# EAGLE library part M4-256P208 (library amd-mach)
AMD MACH SERIES
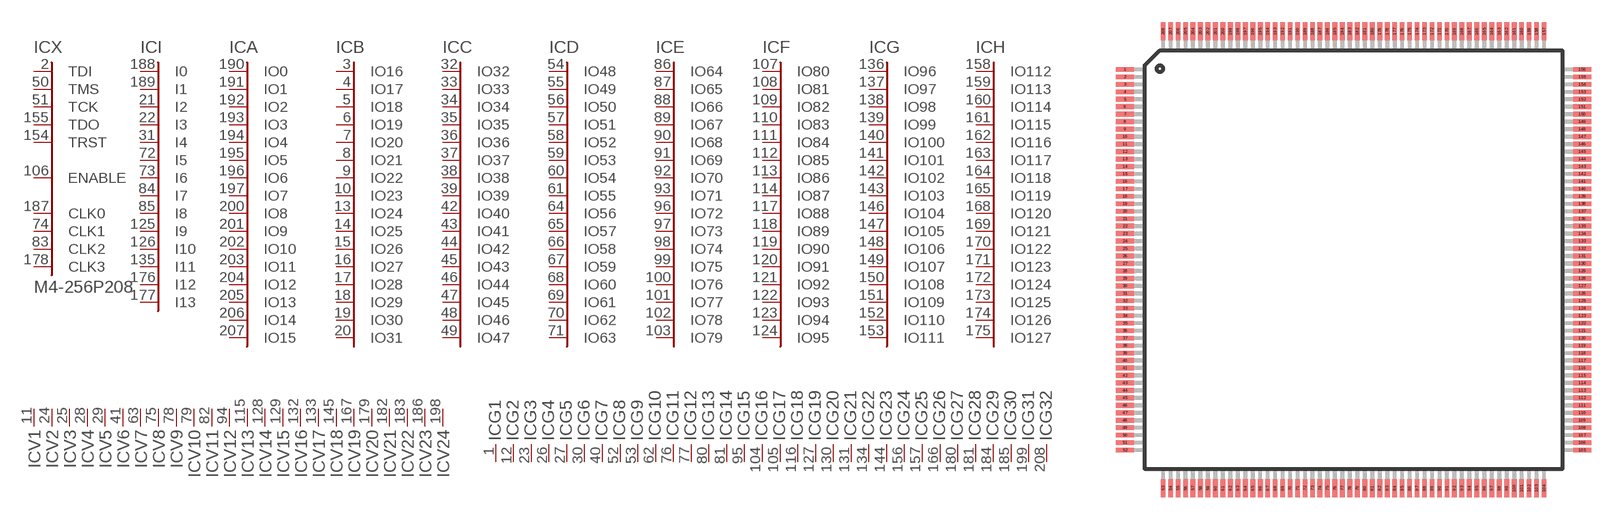
[diagram p7: symbol with the pads of PQFP208; footprint PQFP208]

Designator prefix IC; gates X=M4-256-C A=IO15 B=IO31 C=IO47 D=IO63 E=IO79 F=IO95 G=IO111 H=IO127 I=M4-I13 G1=GND G2=GND G3=GND G4=GND G5=GND G6=GND G7=GND G8=GND G9=GND G10=GND G11=GND G12=GND G13=GND G14=GND G15=GND G16=GND G17=GND G18=GND G19=GND G20=GND G21=GND G22=GND V1=VCC V2=VCC V3=VCC V4=VCC V5=VCC V6=VCC V7=VCC V8=VCC V9=VCC V10=VCC V11=VCC V12=VCC V13=VCC V14=VCC V15=VCC V16=VCC V17=VCC V18=VCC V19=VCC V20=VCC V21=VCC V22=VCC G23=GND G24=GND G25=GND G26=GND G27=GND G28=GND G29=GND G30=GND G31=GND G32=GND V23=VCC V24=VCC

## M4-256P208  [PQFP208]
1  G1:GND  pwr
2  X:TDI  in
3  B:IO16
4  B:IO17
5  B:IO18
6  B:IO19
7  B:IO20
8  B:IO21
9  B:IO22
10  B:IO23
11  V1:VCC  pwr
12  G2:GND  pwr
13  B:IO24
14  B:IO25
15  B:IO26
16  B:IO27
17  B:IO28
18  B:IO29
19  B:IO30
20  B:IO31
21  I:I2  in
22  I:I3  in
23  G3:GND  pwr
24  V2:VCC  pwr
25  V3:VCC  pwr
26  G4:GND  pwr
27  G5:GND  pwr
28  V4:VCC  pwr
29  V5:VCC  pwr
30  G6:GND  pwr
31  I:I4  in
32  C:IO32
33  C:IO33
34  C:IO34
35  C:IO35
36  C:IO36
37  C:IO37
38  C:IO38
39  C:IO39
40  G7:GND  pwr
41  V6:VCC  pwr
42  C:IO40
43  C:IO41
44  C:IO42
45  C:IO43
46  C:IO44
47  C:IO45
48  C:IO46
49  C:IO47
50  X:TMS  in
51  X:TCK  in
52  G8:GND  pwr
53  G9:GND  pwr
54  D:IO48
55  D:IO49
56  D:IO50
57  D:IO51
58  D:IO52
59  D:IO53
60  D:IO54
61  D:IO55
62  G10:GND  pwr
63  V7:VCC  pwr
64  D:IO56
65  D:IO57
66  D:IO58
67  D:IO59
68  D:IO60
69  D:IO61
70  D:IO62
71  D:IO63
72  I:I5  in
73  I:I6  in
74  X:CLK1  in
75  V8:VCC  pwr
76  G11:GND  pwr
77  G12:GND  pwr
78  V9:VCC  pwr
79  V10:VCC  pwr
80  G13:GND  pwr
81  G14:GND  pwr
82  V11:VCC  pwr
83  X:CLK2  in
84  I:I7  in
85  I:I8  in
86  E:IO64
87  E:IO65
88  E:IO66
89  E:IO67
90  E:IO68
91  E:IO69
92  E:IO70
93  E:IO71
94  V12:VCC  pwr
95  G15:GND  pwr
96  E:IO72
97  E:IO73
98  E:IO74
99  E:IO75
100  E:IO76
101  E:IO77
102  E:IO78
103  E:IO79
104  G16:GND  pwr
105  G17:GND  pwr
106  X:ENABLE  in
107  F:IO80
108  F:IO81
109  F:IO82
110  F:IO83
111  F:IO84
112  F:IO85
113  F:IO86
114  F:IO87
115  V13:VCC  pwr
116  G18:GND  pwr
117  F:IO88
118  F:IO89
119  F:IO90
120  F:IO91
121  F:IO92
122  F:IO93
123  F:IO94
124  F:IO95
125  I:I9  in
126  I:I10  in
127  G19:GND  pwr
128  V14:VCC  pwr
129  V15:VCC  pwr
130  G20:GND  pwr
131  G21:GND  pwr
132  V16:VCC  pwr
133  V17:VCC  pwr
134  G22:GND  pwr
135  I:I11  in
136  G:IO96
137  G:IO97
138  G:IO98
139  G:IO99
140  G:IO100
141  G:IO101
142  G:IO102
143  G:IO103
144  G23:GND  pwr
145  V18:VCC  pwr
146  G:IO104
147  G:IO105
148  G:IO106
149  G:IO107
150  G:IO108
151  G:IO109
152  G:IO110
153  G:IO111
154  X:TRST  in
155  X:TDO  in
156  G24:GND  pwr
157  G25:GND  pwr
158  H:IO112
159  H:IO113
160  H:IO114
161  H:IO115
162  H:IO116
163  H:IO117
164  H:IO118
165  H:IO119
166  G26:GND  pwr
167  V19:VCC  pwr
168  H:IO120
169  H:IO121
170  H:IO122
171  H:IO123
172  H:IO124
173  H:IO125
174  H:IO126
175  H:IO127
176  I:I12  in
177  I:I13  in
178  X:CLK3  in
179  V20:VCC  pwr
180  G27:GND  pwr
181  G28:GND  pwr
182  V21:VCC  pwr
183  V22:VCC  pwr
184  G29:GND  pwr
185  G30:GND  pwr
186  V23:VCC  pwr
187  X:CLK0  in
188  I:I0  in
189  I:I1  in
190  A:IO0
191  A:IO1
192  A:IO2
193  A:IO3
194  A:IO4
195  A:IO5
196  A:IO6
197  A:IO7
198  V24:VCC  pwr
199  G31:GND  pwr
200  A:IO8
201  A:IO9
202  A:IO10
203  A:IO11
204  A:IO12
205  A:IO13
206  A:IO14
207  A:IO15
208  G32:GND  pwr

## Footprint PQFP208 (pad centres in mm)
PLASTIC QUAD FLAT PACK
smd 1.2 x 0.32: 1 -15.3,12.75; 2 -15.3,12.25; 3 -15.3,11.75; 4 -15.3,11.25; 5 -15.3,10.75; 6 -15.3,10.25; 7 -15.3,9.75; 8 -15.3,9.25; 9 -15.3,8.75; 10 -15.3,8.25; 11 -15.3,7.75; 12 -15.3,7.25; 13 -15.3,6.75; 14 -15.3,6.25; 15 -15.3,5.75; 16 -15.3,5.25; 17 -15.3,4.75; 18 -15.3,4.25; 19 -15.3,3.75; 20 -15.3,3.25; 21 -15.3,2.75; 22 -15.3,2.25; 23 -15.3,1.75; 24 -15.3,1.25; 25 -15.3,0.75; 26 -15.3,0.25; 27 -15.3,-0.25; 28 -15.3,-0.75; 29 -15.3,-1.25; 30 -15.3,-1.75; 31 -15.3,-2.25; 32 -15.3,-2.75; 33 -15.3,-3.25; 34 -15.3,-3.75; 35 -15.3,-4.25; 36 -15.3,-4.75; 37 -15.3,-5.25; 38 -15.3,-5.75; 39 -15.3,-6.25; 40 -15.3,-6.75; 41 -15.3,-7.25; 42 -15.3,-7.75; 43 -15.3,-8.25; 44 -15.3,-8.75; 45 -15.3,-9.25; 46 -15.3,-9.75; 47 -15.3,-10.25; 48 -15.3,-10.75; 49 -15.3,-11.25; 50 -15.3,-11.75; 51 -15.3,-12.25; 52 -15.3,-12.75; 105 15.3,-12.75; 106 15.3,-12.25; 107 15.3,-11.75; 108 15.3,-11.25; 109 15.3,-10.75; 110 15.3,-10.25; 111 15.3,-9.75; 112 15.3,-9.25; 113 15.3,-8.75; 114 15.3,-8.25; 115 15.3,-7.75; 116 15.3,-7.25; 117 15.3,-6.75; 118 15.3,-6.25; 119 15.3,-5.75; 120 15.3,-5.25; 121 15.3,-4.75; 122 15.3,-4.25; 123 15.3,-3.75; 124 15.3,-3.25; 125 15.3,-2.75; 126 15.3,-2.25; 127 15.3,-1.75; 128 15.3,-1.25; 129 15.3,-0.75; 130 15.3,-0.25; 131 15.3,0.25; 132 15.3,0.75; 133 15.3,1.25; 134 15.3,1.75; 135 15.3,2.25; 136 15.3,2.75; 137 15.3,3.25; 138 15.3,3.75; 139 15.3,4.25; 140 15.3,4.75; 141 15.3,5.25; 142 15.3,5.75; 143 15.3,6.25; 144 15.3,6.75; 145 15.3,7.25; 146 15.3,7.75; 147 15.3,8.25; 148 15.3,8.75; 149 15.3,9.25; 150 15.3,9.75; 151 15.3,10.25; 152 15.3,10.75; 153 15.3,11.25; 154 15.3,11.75; 155 15.3,12.25; 156 15.3,12.75
smd 0.32 x 1.2: 53 -12.75,-15.3; 54 -12.25,-15.3; 55 -11.75,-15.3; 56 -11.25,-15.3; 57 -10.75,-15.3; 58 -10.25,-15.3; 59 -9.75,-15.3; 60 -9.25,-15.3; 61 -8.75,-15.3; 62 -8.25,-15.3; 63 -7.75,-15.3; 64 -7.25,-15.3; 65 -6.75,-15.3; 66 -6.25,-15.3; 67 -5.75,-15.3; 68 -5.25,-15.3; 69 -4.75,-15.3; 70 -4.25,-15.3; 71 -3.75,-15.3; 72 -3.25,-15.3; 73 -2.75,-15.3; 74 -2.25,-15.3; 75 -1.75,-15.3; 76 -1.25,-15.3; 77 -0.75,-15.3; 78 -0.25,-15.3; 79 0.25,-15.3; 80 0.75,-15.3; 81 1.25,-15.3; 82 1.75,-15.3; 83 2.25,-15.3; 84 2.75,-15.3; 85 3.25,-15.3; 86 3.75,-15.3; 87 4.25,-15.3; 88 4.75,-15.3; 89 5.25,-15.3; 90 5.75,-15.3; 91 6.25,-15.3; 92 6.75,-15.3; 93 7.25,-15.3; 94 7.75,-15.3; 95 8.25,-15.3; 96 8.75,-15.3; 97 9.25,-15.3; 98 9.75,-15.3; 99 10.25,-15.3; 100 10.75,-15.3; 101 11.25,-15.3; 102 11.75,-15.3; 103 12.25,-15.3; 104 12.75,-15.3; 157 12.75,15.3; 158 12.25,15.3; 159 11.75,15.3; 160 11.25,15.3; 161 10.75,15.3; 162 10.25,15.3; 163 9.75,15.3; 164 9.25,15.3; 165 8.75,15.3; 166 8.25,15.3; 167 7.75,15.3; 168 7.25,15.3; 169 6.75,15.3; 170 6.25,15.3; 171 5.75,15.3; 172 5.25,15.3; 173 4.75,15.3; 174 4.25,15.3; 175 3.75,15.3; 176 3.25,15.3; 177 2.75,15.3; 178 2.25,15.3; 179 1.75,15.3; 180 1.25,15.3; 181 0.75,15.3; 182 0.25,15.3; 183 -0.25,15.3; 184 -0.75,15.3; 185 -1.25,15.3; 186 -1.75,15.3; 187 -2.25,15.3; 188 -2.75,15.3; 189 -3.25,15.3; 190 -3.75,15.3; 191 -4.25,15.3; 192 -4.75,15.3; 193 -5.25,15.3; 194 -5.75,15.3; 195 -6.25,15.3; 196 -6.75,15.3; 197 -7.25,15.3; 198 -7.75,15.3; 199 -8.25,15.3; 200 -8.75,15.3; 201 -9.25,15.3; 202 -9.75,15.3; 203 -10.25,15.3; 204 -10.75,15.3; 205 -11.25,15.3; 206 -11.75,15.3; 207 -12.25,15.3; 208 -12.75,15.3